# Altium schematic symbol library POWER_COMPONENTS_SYMBOLS.SchLib: 9 symbols
Pins are listed as number, name and electrical type; pins without a type are passive.

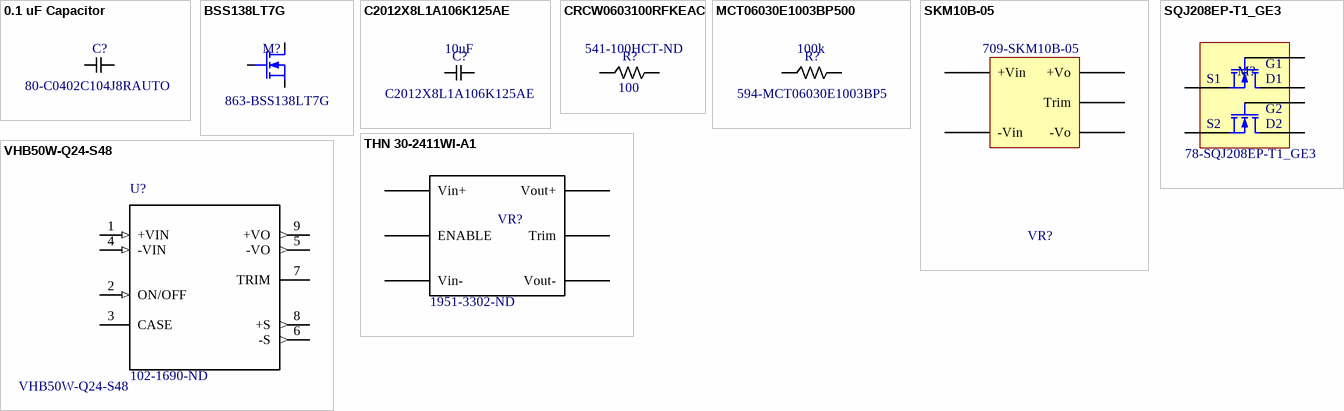
[diagram p0: symbols 0.1 uF Capacitor to VHB50W-Q24-S48]

## 0.1 uF Capacitor
designator C?  Supplier Part Number 1: 80-C0402C104J8RAUTO  (hidden comment: *)
0.1 uF Capacitor; Supplier 1: Mouser
footprint *INDC0805X55N
pins: 1, 2

## BSS138LT7G
designator M?  Supplier Part Number 1: 863-BSS138LT7G  (hidden comment: *)
N-MOSFET for logic level switching; Supplier 1: Mouser
footprint SOT95P245X110-3N (SOT23, 3-Leads, Body 2.92x2.45mm, Pitch 0.95mm, IPC Medium Density)
pins: 1 G, 2 S, 3 D

## C2012X8L1A106K125AE
designator C?  value 10uF  Supplier Part Number: C2012X8L1A106K125AE  (hidden comment: *)
10 uF Capacitor
footprint *INDC0805X55N
simulation model CAP (Default semiconductor capacitor)
pins: 1, 2

## CRCW0603100RFKEAC
designator R?  value 100  Supplier Part Number 1: 541-100HCT-ND  (hidden comment: *)
100 Ohm Resistor; Supplier 1: Digi-Key
footprint *RESC1608X55N
simulation model RES (Default semiconductor resistor)
pins: 1, 2

## MCT06030E1003BP500
designator R?  value 100k  Supplier Part Number 1: 594-MCT06030E1003BP5  (hidden comment: *)
100 kOhm Resistor; Supplier 1: Mouser
footprint *RESC1608X55N
simulation model RES (Default semiconductor resistor)
pins: 1, 2

## SKM10B-05
designator VR?  Supplier Part Number 1: 709-SKM10B-05  (hidden comment: *)
DC-DC Converter, 5V 10W; Supplier 1: Mouser
footprint SKM10B-05
pins: 1 +Vin, 2 -Vin, 3 +Vo, 4 Trim, 5 -Vo

## SQJ208EP-T1_GE3
designator M?, comment Supplier Part Number 1: 78-SQJ208EP-T1_GE3  (hidden comment: NPN MOSFET)
Two NPN Power Transistors for heater power control; Supplier 1: Mouser
footprint PowerPAK SO-8L DUAL ASYMMETRIC
pins: 1 D1, 2 S1, 3 G1, 4 D2, 5 S2, 6 G2

## THN 30-2411WI-A1
designator VR?  Supplier Part Number 1: 1951-3302-ND  (hidden comment: *)
28V to 5V converter; Supplier 1: Digi-Key
footprint THN 30-2411WI-A1
pins: 1 Vin+, 2 Vin-, 3 Vout+, 4 Trim, 5 Vout-, 6 ENABLE

## VHB50W-Q24-S48
designator U?  Supplier Part Number 1: 102-1690-ND
DC-DC Converter, 48V for laser; Value: *; Supplier 1: Digi-Key
footprint *CONV_VHB50W-Q24-S48
pins: 1 +VIN (in), 2 ON/OFF (in), 3 CASE, 4 -VIN (in), 5 -VO (out), 6 -S (out), 7 TRIM, 8 +S (out), 9 +VO (out)